# Altium footprint library 68712414022.PcbLib: 1 footprints
Each footprint in its own frame and in the unit in brackets; x right, y up, seen from the top. Pads: shape width x height; smd on the part's side, far side on the other; paste and mask are expansions set on the pad; w line width, h text height; cw(c..) or ccw(c..) is an arc to the next point about the centre after c.
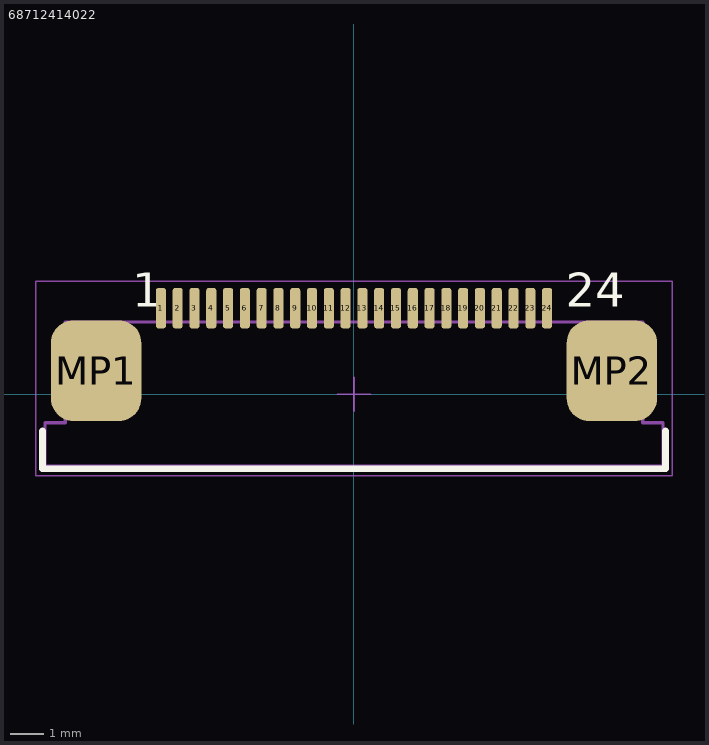
[diagram p0: the footprint, top view; thin cyan lines are the x and y axes]

## 68712414022 [mm] "ZIF Connectors, Horizontal, Top Contact, pitch 0.5mm, 24p"
height 2.25
pads (26):
  rrect50% 0.3x1.2 smd: 1(-5.75,2.56) 2(-5.25,2.56) 3(-4.75,2.56) 4(-4.25,2.56) 5(-3.75,2.56) 6(-3.25,2.56) 7(-2.75,2.56) 8(-2.25,2.56) 9(-1.75,2.56) 10(-1.25,2.56) 11(-0.75,2.56) 12(-0.25,2.56) 13(0.25,2.56) 14(0.75,2.56) 15(1.25,2.56) 16(1.75,2.56) 17(2.25,2.56) 18(2.75,2.56) 19(3.25,2.56) 20(3.75,2.56) 21(4.25,2.56) 22(4.75,2.56) 23(5.25,2.56) 24(5.75,2.56)
  rrect50% 2.7x3 smd: MP1(-7.68,0.7) MP2(7.68,0.7)
Top Overlay:
  lines w0.2: -9.275,-1.1 -9.275,-2.225 9.275,-2.225 9.275,-1.1
  text "24" at 6.3,2.61 h1.02
  text "1" at -6.6,2.61 h1.02
Top Assembly:
  lines w0.1: -9.2,-2.15 9.2,-2.15 9.2,-0.85 8.6,-0.85 8.6,2.15 -8.6,2.15 -8.6,-0.85 -9.2,-0.85 -9.2,-2.15
Top Courtyard:
  lines w0.05: -0.5,0 0.5,0 ; 0,-0.5 0,0.5 ; -9.475,-2.425 9.475,-2.425 9.475,3.36 -9.475,3.36 -9.475,-2.425
3D body "68712414022.stp": height 2.1, standoff 0, extent -9.2,-2.15 9.2,2.95